# EAGLE library part DPDT (library GF-126-0327)
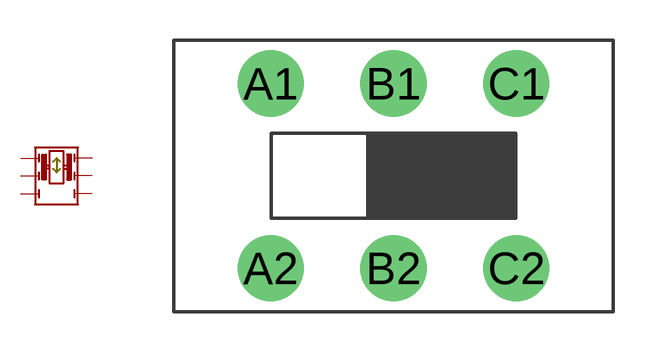
[diagram p0: symbol with the pads of GF-126-0327; footprint GF-126-0327]

Designator prefix -

## DPDT  [GF-126-0327]
A1  A1
A2  A2
B1  B1
B2  B2
C1  C1
C2  C2

## Footprint GF-126-0327 (pad centres in mm)
drill 1.651: A1 -4.597,3.454; A2 -4.597,-3.454; B1 0,3.454; B2 0,-3.454; C1 4.597,3.454; C2 4.597,-3.454